# EAGLE library part ST26C31BDR (library ST Microelectronics)
CMOS quad 3-state differential line driver
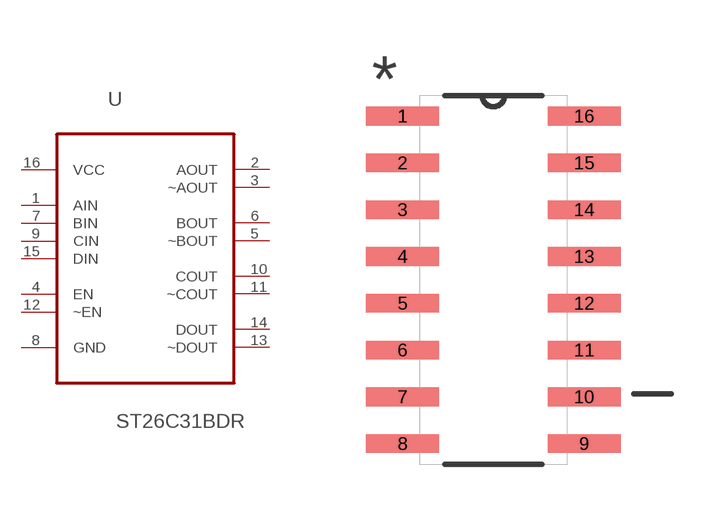
[diagram p299: symbol with the pads of SOIC127P600X175-16N; footprint SOIC127P600X175-16N]

Designator prefix U

## ST26C31BDR (MPN: ST26C31BDR; OC_FARNELL: 1467691; OC_NEWARK: 89K0996; PACKAGE: SOIC-16; SUPPLIER: STMICROELECTRONICS)  [SOIC127P600X175-16N]
1  AIN  in
2  AOUT  out
3  ~AOUT  out
4  EN  in
5  ~BOUT  out
6  BOUT  out
7  BIN  in
8  GND  pas
9  CIN  in
10  COUT  out
11  ~COUT  out
12  ~EN  in
13  ~DOUT  out
14  DOUT  out
15  DIN  in
16  VCC  pwr

## Footprint SOIC127P600X175-16N (pad centres in mm)
smd 1.981 x 0.508: 1 -2.464,4.445; 2 -2.464,3.175; 3 -2.464,1.905; 4 -2.464,0.635; 5 -2.464,-0.635; 6 -2.464,-1.905; 7 -2.464,-3.175; 8 -2.464,-4.445; 9 2.464,-4.445; 10 2.464,-3.175; 11 2.464,-1.905; 12 2.464,-0.635; 13 2.464,0.635; 14 2.464,1.905; 15 2.464,3.175; 16 2.464,4.445